# Altium footprint library 29.4mm_Heat_Sink.PcbLib: 1 footprints
Each footprint in its own frame and in the unit in brackets; x right, y up, seen from the top. Pads: shape width x height; smd on the part's side, far side on the other; paste and mask are expansions set on the pad; w line width, h text height; cw(c..) or ccw(c..) is an arc to the next point about the centre after c.
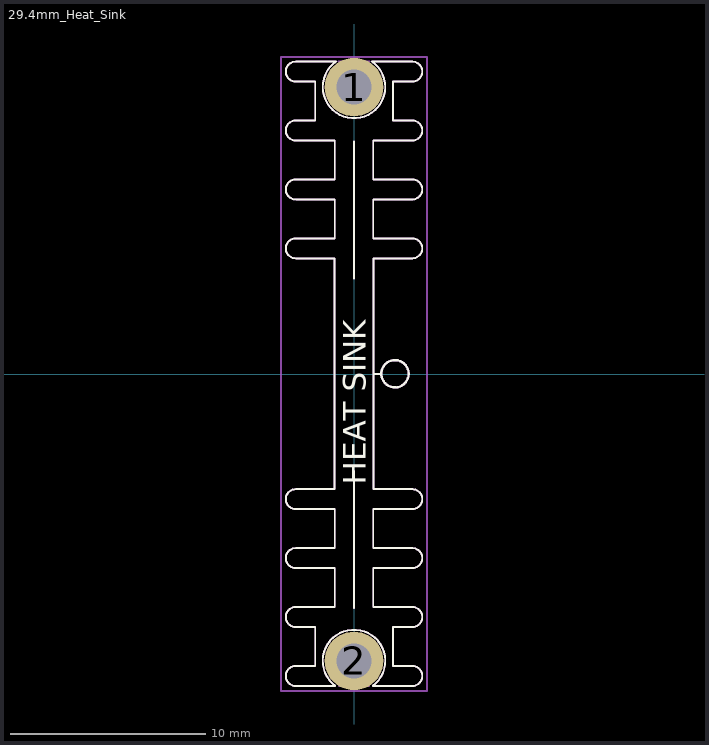
[diagram p0: the footprint, top view; thin cyan lines are the x and y axes]

## 29.4mm_Heat_Sink [mm] "29.4mm_Heat_Sink"
pads (2):
  round 3 hole 1.8 paste-3 mask+0: 1(0,14.7) 2(0,-14.7)
Top Overlay:
  circle w0.12: c2.101,0.012 r0.7
  lines w0.1: -2.985,-15.98 cw(c-2.985,-15.47) -2.985,-14.96 -1.985,-14.96 -1.985,-12.96 -2.985,-12.96 cw(c-2.985,-12.45) -2.985,-11.94 -0.985,-11.94 -0.985,-9.94 -2.985,-9.94 cw(c-2.985,-9.43) -2.985,-8.92 -0.985,-8.92 -0.985,-6.92 -2.985,-6.92 cw(c-2.985,-6.41) -2.985,-5.9 -0.985,-5.9 ; -2.985,16.004 ccw(c-2.985,15.494) -2.985,14.984 -1.985,14.984 -1.985,12.984 -2.985,12.984 ccw(c-2.985,12.474) -2.985,11.964 -0.985,11.964 -0.985,9.964 -2.985,9.964 ccw(c-2.985,9.454) -2.985,8.944 -0.985,8.944 -0.985,6.944 -2.985,6.944 ccw(c-2.985,6.434) -2.985,5.924 -0.985,5.924 ; -2.977,-15.98 -0.96,-15.98 cw(c0,-14.7) 0.96,-15.98 2.987,-15.98 ccw(c2.987,-15.47) 2.987,-14.96 1.987,-14.96 1.987,-12.96 2.987,-12.96 ccw(c2.987,-12.45) 2.987,-11.94 0.987,-11.94 0.987,-9.94 2.987,-9.94 ccw(c2.987,-9.43) 2.987,-8.92 0.987,-8.92 0.987,-6.92 2.987,-6.92 ccw(c2.987,-6.41) 2.987,-5.9 0.987,-5.9 ; -2.977,16.004 -0.927,16.004 ccw(c0,14.7) 0.927,16.004 2.987,16.004 cw(c2.987,15.494) 2.987,14.984 1.987,14.984 1.987,12.984 2.987,12.984 cw(c2.987,12.474) 2.987,11.964 0.987,11.964 0.987,9.964 2.987,9.964 cw(c2.987,9.454) 2.987,8.944 0.987,8.944 0.987,6.944 2.987,6.944 cw(c2.987,6.434) 2.987,5.924 0.987,5.924 ; -1,-5.9 -1,5.924 ; 1,-5.9 1,5.924 ; 1,0 1.4,0
  lines w0.12: 0,-11.988 0,-4.988 ; 0,4.9 0,11.9
  text "HEAT SINK" at 0.987,-5.677 h2
Mechanical 1:
  circle w0.12: c2.101,0.012 r0.7
  circle w0.1: c0,14.7 r0.4
  circle w0.1: c0,-14.7 r0.4
  lines w0.1: -2.985,-15.98 cw(c-2.985,-15.47) -2.985,-14.96 -1.985,-14.96 -1.985,-12.96 -2.985,-12.96 cw(c-2.985,-12.45) -2.985,-11.94 -0.985,-11.94 -0.985,-9.94 -2.985,-9.94 cw(c-2.985,-9.43) -2.985,-8.92 -0.985,-8.92 -0.985,-6.92 -2.985,-6.92 cw(c-2.985,-6.41) -2.985,-5.9 -0.985,-5.9 ; -2.985,16.004 ccw(c-2.985,15.494) -2.985,14.984 -1.985,14.984 -1.985,12.984 -2.985,12.984 ccw(c-2.985,12.474) -2.985,11.964 -0.985,11.964 -0.985,9.964 -2.985,9.964 ccw(c-2.985,9.454) -2.985,8.944 -0.985,8.944 -0.985,6.944 -2.985,6.944 ccw(c-2.985,6.434) -2.985,5.924 -0.985,5.924 ; -2.977,-15.98 -0.96,-15.98 cw(c0,-14.7) 0.96,-15.98 2.987,-15.98 ccw(c2.987,-15.47) 2.987,-14.96 1.987,-14.96 1.987,-12.96 2.987,-12.96 ccw(c2.987,-12.45) 2.987,-11.94 0.987,-11.94 0.987,-9.94 2.987,-9.94 ccw(c2.987,-9.43) 2.987,-8.92 0.987,-8.92 0.987,-6.92 2.987,-6.92 ccw(c2.987,-6.41) 2.987,-5.9 0.987,-5.9 ; -2.977,16.004 -0.927,16.004 ccw(c0,14.7) 0.927,16.004 2.987,16.004 cw(c2.987,15.494) 2.987,14.984 1.987,14.984 1.987,12.984 2.987,12.984 cw(c2.987,12.474) 2.987,11.964 0.987,11.964 0.987,9.964 2.987,9.964 cw(c2.987,9.454) 2.987,8.944 0.987,8.944 0.987,6.944 2.987,6.944 cw(c2.987,6.434) 2.987,5.924 0.987,5.924 ; -1,-5.9 -1,5.924 ; -0.796,16.004 -0.383,16.004 -0.383,15.053 ccw(c0,14.7) 0.383,15.053 0.383,16.004 0.796,16.004 ; -0.78,-15.98 -0.383,-15.98 -0.383,-15.05 ; -0.383,-15.053 cw(c0,-14.7) 0.383,-15.053 ; 0.383,-15.05 0.383,-15.98 0.78,-15.98 ; 1,-5.9 1,5.924 ; 1,0 1.4,0 ; -3.75,-16.25 3.75,-16.25 3.75,16.25 -3.75,16.25 -3.75,-16.25
  lines w0.12: 0,-11.988 0,-4.988 ; 0,4.9 0,11.9
  text ".Designator" at 0,0.376 h2
Mechanical 15:
  text "+" at -0.833,-1.25 h2.5
3D body: height 19, standoff 0, extent -3.495,-15.98 3.497,16.004
3D body: height 17, standoff 15, extent -1.1,-1 1.1,1
3D body: height 2, standoff -3, extent -0.4,-15.1 0.4,-14.3
3D body: height 2, standoff -3, extent -0.4,14.3 0.4,15.1